# EAGLE library part SN74LVC2G02 (library eric-custom)
SN74LVC2G02 Dual 2-input NOR gate
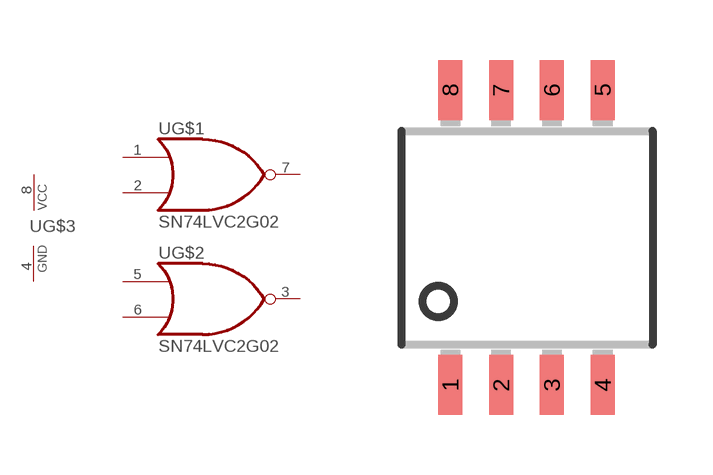
[diagram p3: symbol with the pads of PS_R-PDSO-G8; footprint PS_R-PDSO-G8]

Designator prefix -; gates G$1=7402 G$2=7402 G$3=PWRN

## SN74LVC2G02  [PS_R-PDSO-G8]
1  G$1:I0  in
2  G$1:I1  in
3  G$2:O  out
4  G$3:GND  pwr
5  G$2:I0  in
6  G$2:I1  in
7  G$1:O  out
8  G$3:VCC  pwr

## Footprint PS_R-PDSO-G8 (pad centres in mm)
PS (R-PDSO-G8) Source: www.ti.com sn75452b.pdf
smd 0.6 x 1.5: 1 -1.905,-3.685; 2 -0.635,-3.685; 3 0.635,-3.685; 4 1.905,-3.685; 5 1.905,3.7; 6 0.635,3.7; 7 -0.635,3.7; 8 -1.905,3.7